# Altium footprint library SWITCH.PCBLIB: 95 footprints (part 3 of 6)
Each footprint in its own frame and in the unit in brackets; x right, y up, seen from the top. Pads: shape width x height; smd on the part's side, far side on the other; paste and mask are expansions set on the pad; w line width, h text height; cw(c..) or ccw(c..) is an arc to the next point about the centre after c.
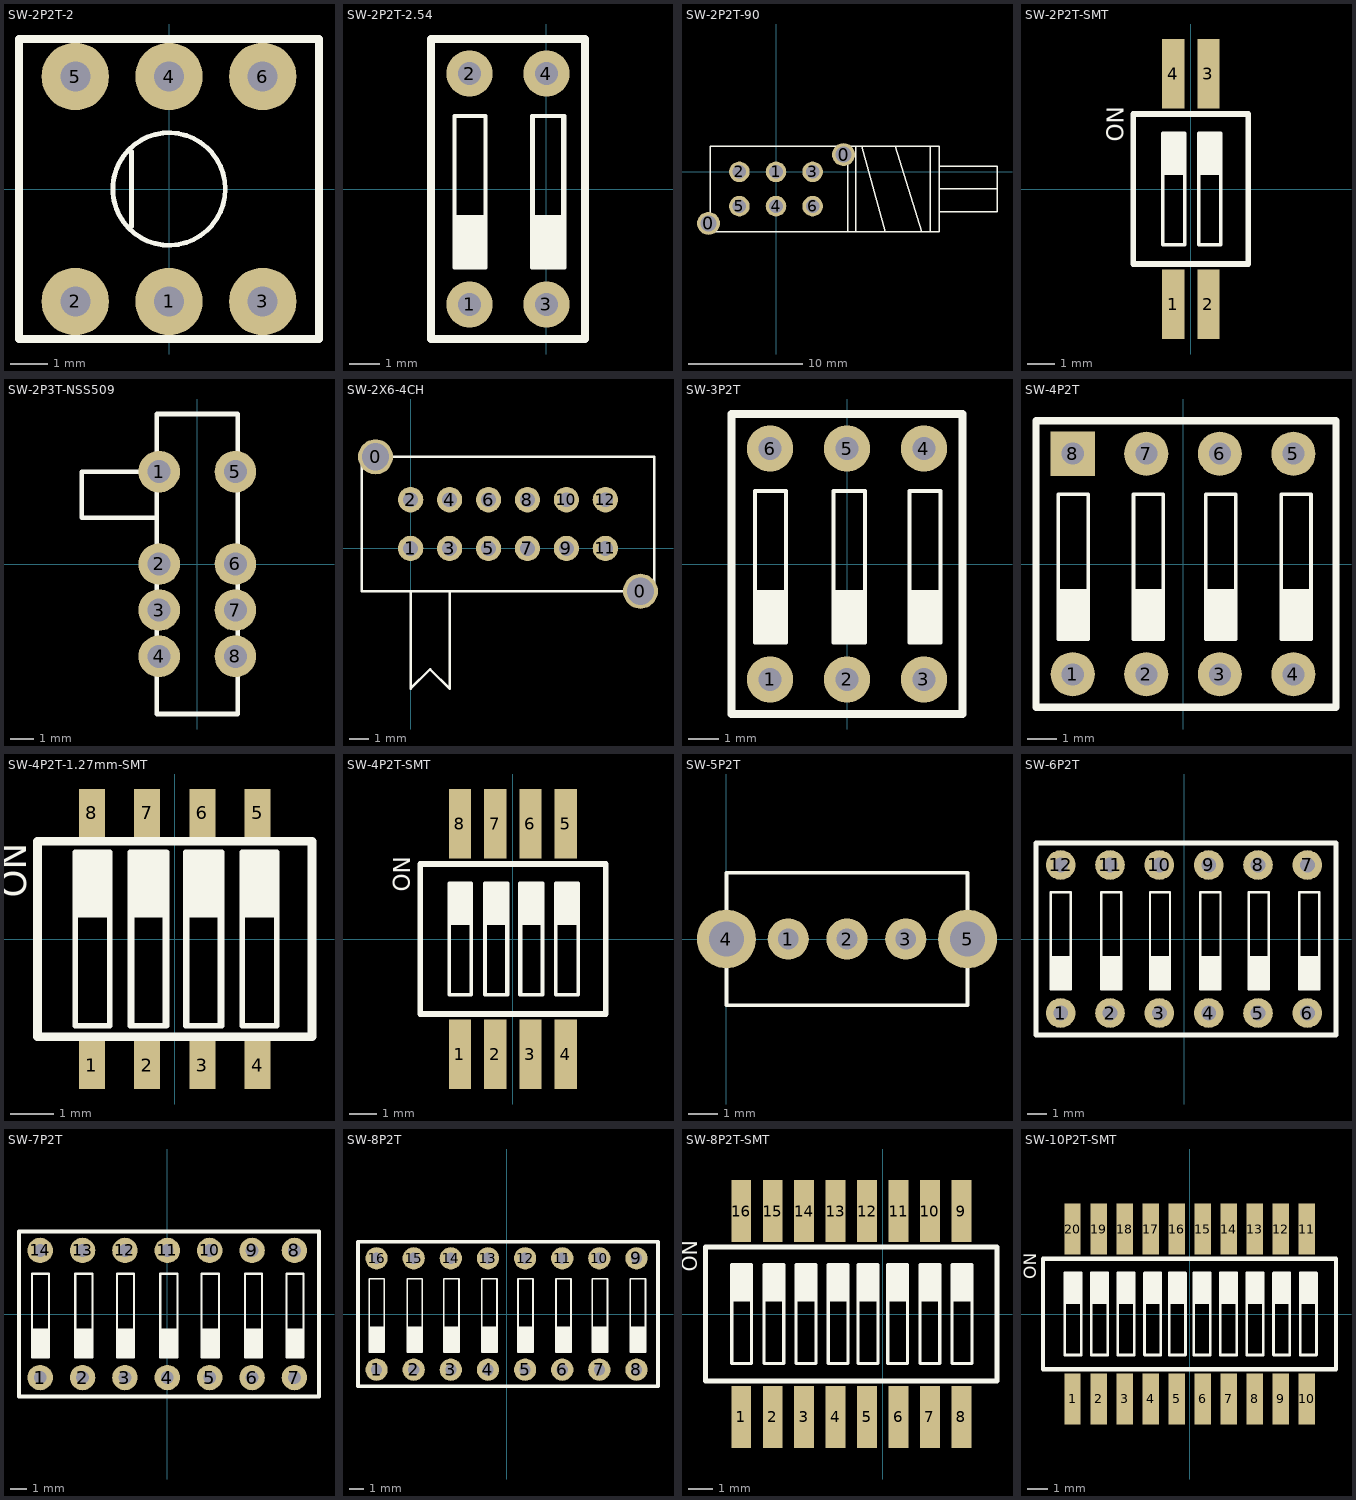
[diagram p2: the footprints below, top view; thin cyan lines are the x and y axes]

## SW-2P2T-2 [mm]
pads (6):
  round 1.8 hole 0.8: 1(0,-3) 2(-2.5,-3) 3(2.5,-3) 4(0,3) 5(-2.5,3) 6(2.5,3)
TopOverlay:
  circle w0.127: c0,0 r1.5
  lines w0.127: -1,-1 -1,1
  lines w0.203: -4,-4 -4,4 4,4 4,-4 0,-4 -4,-4

## SW-2P2T-2.54 [mil] "SW-2P2T-2.54"
pads (4):
  round 60 hole 30: 1(-100,-150) 2(-100,150) 3(0,-150) 4(0,150)
TopOverlay:
  rectangle: -119.69,-101.97 -79.13,-33.98
  rectangle: -17.36,-101.97 23.2,-33.98
  rectangle: -18.97,-101.97 21.58,-33.98
  lines w5: -119.69,-101.97 -119.69,94.88 -79.13,94.88 -79.13,-101.97 -119.69,-101.97 ; -18.97,-101.97 -18.97,94.88 21.58,94.88 21.58,-101.97 -18.97,-101.97 ; -17.36,-101.97 -17.36,94.88 23.2,94.88 23.2,-101.97 -17.36,-101.97
  lines w10: -150,-194.88 -150,194.88 50,194.88 50,-194.88 -150,-194.88

## SW-2P2T-90 [mm]
pads (8):
  round 2 hole 1.4: 0(-5.9,-4.5) 0(5.9,1.5)
  round 1.8 hole 1.2: 1(0,0) 2(-3.2,0) 3(3.2,0) 4(0,-3) 5(-3.2,-3) 6(3.2,-3)
TopOverlay:
  lines w0.127: 6.26,-5.25 6.26,2.25 ; 6.946,-5.25 6.946,2.25 ; 7.471,2.25 9.52,-5.25 ; 10.395,2.25 12.719,-5.25 ; 13.468,-5.2 13.468,2.25 ; 14.26,-3.499 19.3,-3.499 ; 14.26,-1.5 19.3,-1.5 ; 14.3,0.5 19.3,0.5 19.3,-3.5 ; -5.74,-5.25 -5.74,2.25 14.26,2.25 14.26,-5.25 -5.74,-5.25

## SW-2P2T-SMT [mm] "SW-2P2T-SMT"
pads (4):
  rect 0.8x2.5 smd: 1(-0.635,-4.15) 2(0.635,-4.15) 3(0.635,4.15) 4(-0.635,4.15)
TopOverlay:
  rectangle: -1.02,0.5 -0.22,2
  rectangle: 0.28,0.5 1.08,2
  lines w0.127: -1.02,-2 -1.02,2 -0.22,2 -0.22,-2 -1.02,-2 ; 0.28,-2 0.28,2 1.08,2 1.08,-2 0.28,-2
  lines w0.2: -2.07,-2.7 -2.07,2.7 2.07,2.7 2.07,-2.7 -2.07,-2.7
  text "ON" at -2.42,1.7 h0.6

## SW-2P3T-NSS509 [mm]
pads (8):
  round 1.8 hole 1: 1(-1.65,4) 2(-1.65,0) 3(-1.65,-2) 4(-1.65,-4) 5(1.65,4) 6(1.65,0) 7(1.65,-2) 8(1.65,-4)
TopOverlay:
  lines w0.2: -1.75,2 -5,2 -5,4 -1.65,4 ; -1.75,-6.5 1.75,-6.5 1.75,6.5 -1.75,6.5 -1.75,-6.5

## SW-2X6-4CH [mm]
pads (14):
  round 1.8 hole 1.4: 0(-1.8,4.7) 0(11.8,-2.2)
  round 1.3 hole 0.762: 1(0,0) 2(0,2.5) 3(2,0) 4(2,2.5) 5(4,0) 6(4,2.5) 7(6,0) 8(6,2.5) 9(8,0) 10(8,2.5) 11(10,0) 12(10,2.5)
TopOverlay:
  lines w0.127: 0,-2.2 0,-7.2 0.999,-6.201 ; 1.001,-6.201 2,-7.2 2,-2.2 ; -2.5,-2.2 12.5,-2.2 12.5,4.7 -2.5,4.7 -2.5,-2.2

## SW-3P2T [mil]
pads (6):
  round 60 hole 30: 1(-100,-150) 2(0,-150) 3(100,-150) 4(100,150) 5(0,150) 6(-100,150)
TopOverlay:
  rectangle: -119.69,-101.97 -79.13,-33.98
  rectangle: -17.36,-101.97 23.2,-33.98
  rectangle: 81.03,-101.97 121.58,-33.98
  lines w5: -119.69,-101.97 -119.69,94.88 -79.13,94.88 -79.13,-101.97 -119.69,-101.97 ; -17.36,-101.97 -17.36,94.88 23.2,94.88 23.2,-101.97 -17.36,-101.97 ; 81.03,-101.97 81.03,94.88 121.58,94.88 121.58,-101.97 81.03,-101.97
  lines w10: -150,-194.88 -150,194.88 150,194.88 150,-194.88 -150,-194.88

## SW-4P2T [mil]
pads (8):
  round 60 hole 30: 1(-150,-150) 2(-50,-150) 3(50,-150) 4(150,-150) 5(150,150) 6(50,150) 7(-50,150)
  rect 60x60 hole 30: 8(-150,150)
TopOverlay:
  rectangle: -169.68,-101.97 -129.13,-33.98
  rectangle: -67.36,-101.97 -26.8,-33.98
  rectangle: 31.03,-101.97 71.58,-33.98
  rectangle: 133.35,-101.97 173.9,-33.98
  lines w5: -169.69,-101.97 -169.69,94.88 -129.13,94.88 -129.13,-101.97 -169.69,-101.97 ; -67.36,-101.97 -67.36,94.88 -26.8,94.88 -26.8,-101.97 -67.36,-101.97 ; 31.03,-101.97 31.03,94.88 71.58,94.88 71.58,-101.97 31.03,-101.97 ; 133.35,-101.97 133.35,94.88 173.9,94.88 173.9,-101.97 133.35,-101.97
  lines w10: -200,-194.88 -200,194.88 208,194.88 208,-194.88 -200,-194.88

## SW-4P2T-1.27mm-SMT [mm] "SW-4P2T-1.27mm-SMT"
pads (8):
  rect 0.6x1.1 smd: 1(-1.905,-2.9) 2(-0.635,-2.9) 3(0.635,-2.9) 4(1.905,-2.9) 5(1.905,2.9) 6(0.635,2.9) 7(-0.635,2.9) 8(-1.905,2.9)
TopOverlay:
  rectangle: 1.55,0.5 2.35,2
  rectangle: 0.25,0.5 1.05,2
  rectangle: -1.02,0.5 -0.22,2
  rectangle: 0.28,0.5 1.08,2
  rectangle: -0.99,0.5 -0.19,2
  rectangle: -2.29,0.5 -1.49,2
  lines w0.127: -2.29,-2 -1.49,-2 -1.49,2 -2.29,2 -2.29,-2 ; -1.02,-2 -1.02,2 -0.22,2 -0.22,-2 -1.02,-2 ; -0.99,-2 -0.19,-2 -0.19,2 -0.99,2 -0.99,-2 ; 0.25,-2 1.05,-2 1.05,2 0.25,2 0.25,-2 ; 0.28,-2 0.28,2 1.08,2 1.08,-2 0.28,-2 ; 1.55,-2 2.35,-2 2.35,2 1.55,2 1.55,-2
  lines w0.2: -3.155,-2.25 -3.155,2.25 3.155,2.25 3.155,-2.25 -3.155,-2.25
  text "ON" at -3.42,0.95 h0.6

## SW-4P2T-SMT [mm] "SW-4P2T-SMT"
pads (8):
  rect 0.8x2.5 smd: 1(-1.905,-4.15) 2(-0.635,-4.15) 3(0.635,-4.15) 4(1.905,-4.15) 5(1.905,4.15) 6(0.635,4.15) 7(-0.635,4.15) 8(-1.905,4.15)
TopOverlay:
  rectangle: -2.29,0.5 -1.49,2
  rectangle: -0.99,0.5 -0.19,2
  rectangle: 0.28,0.5 1.08,2
  rectangle: -1.02,0.5 -0.22,2
  rectangle: 0.25,0.5 1.05,2
  rectangle: 1.55,0.5 2.35,2
  lines w0.127: -2.29,-2 -2.29,2 -1.49,2 -1.49,-2 -2.29,-2 ; -1.02,-2 -0.22,-2 -0.22,2 -1.02,2 -1.02,-2 ; -0.99,-2 -0.99,2 -0.19,2 -0.19,-2 -0.99,-2 ; 0.25,-2 0.25,2 1.05,2 1.05,-2 0.25,-2 ; 0.28,-2 1.08,-2 1.08,2 0.28,2 0.28,-2 ; 1.55,-2 1.55,2 2.35,2 2.35,-2 1.55,-2
  lines w0.2: -3.34,-2.7 -3.34,2.7 3.34,2.7 3.34,-2.7 -3.34,-2.7
  text "ON" at -3.69,1.7 h0.6

## SW-5P2T [mm] "SW-5P2T"
pads (5):
  round 1.4 hole 0.7: 1(2.1,0) 2(4.1,0) 3(6.1,0)
  round 2 hole 1.2: 4(0,0) 5(8.2,0)
TopOverlay:
  lines w0.127: 0,-2.25 0,2.25 8.2,2.25 8.2,-2.25 0,-2.25

## SW-6P2T [mil]
pads (12):
  round 60 hole 30: 1(-250,-150) 2(-150,-150) 3(-50,-150) 4(50,-150) 5(150,-150) 6(250,-150) 7(250,150) 8(150,150) 9(50,150) 10(-50,150) 11(-150,150) 12(-250,150)
TopOverlay:
  rectangle: 233.35,-101.97 273.9,-33.98
  rectangle: 131.03,-101.97 171.58,-33.98
  rectangle: 33.35,-101.97 73.9,-33.98
  rectangle: -68.97,-101.97 -28.42,-33.98
  rectangle: -167.36,-101.97 -126.8,-33.98
  rectangle: -269.68,-101.97 -229.13,-33.98
  lines w5: -269.69,-101.97 -229.13,-101.97 -229.13,94.88 -269.69,94.88 -269.69,-101.97 ; -167.36,-101.97 -126.8,-101.97 -126.8,94.88 -167.36,94.88 -167.36,-101.97 ; -68.97,-101.97 -28.42,-101.97 -28.42,94.88 -68.97,94.88 -68.97,-101.97 ; 33.35,-101.97 73.9,-101.97 73.9,94.88 33.35,94.88 33.35,-101.97 ; 131.03,-101.97 171.58,-101.97 171.58,94.88 131.03,94.88 131.03,-101.97 ; 233.35,-101.97 273.9,-101.97 273.9,94.88 233.35,94.88 233.35,-101.97
  lines w10: -300,-194.88 308,-194.88 308,194.88 -300,194.88 -300,-194.88

## SW-7P2T [mil]
pads (14):
  round 60 hole 30: 1(-300,-150) 2(-200,-150) 3(-100,-150) 4(0,-150) 5(100,-150) 6(200,-150) 7(300,-150) 8(300,150) 9(200,150) 10(100,150) 11(0,150) 12(-100,150) 13(-200,150) 14(-300,150)
TopOverlay:
  rectangle: 281.03,-101.97 321.58,-33.98
  rectangle: 183.35,-101.97 223.9,-33.98
  rectangle: 81.03,-101.97 121.58,-33.98
  rectangle: -16.65,-101.97 23.9,-33.98
  rectangle: -118.97,-101.97 -78.42,-33.98
  rectangle: -217.36,-101.97 -176.8,-33.98
  rectangle: -319.68,-101.97 -279.13,-33.98
  lines w5: -319.69,-101.97 -279.13,-101.97 -279.13,94.88 -319.69,94.88 -319.69,-101.97 ; -217.36,-101.97 -176.8,-101.97 -176.8,94.88 -217.36,94.88 -217.36,-101.97 ; -118.97,-101.97 -78.42,-101.97 -78.42,94.88 -118.97,94.88 -118.97,-101.97 ; -16.65,-101.97 23.9,-101.97 23.9,94.88 -16.65,94.88 -16.65,-101.97 ; 81.03,-101.97 121.58,-101.97 121.58,94.88 81.03,94.88 81.03,-101.97 ; 183.35,-101.97 223.9,-101.97 223.9,94.88 183.35,94.88 183.35,-101.97 ; 281.03,-101.97 321.58,-101.97 321.58,94.88 281.03,94.88 281.03,-101.97
  lines w10: -350,-194.88 358,-194.88 358,194.88 -350,194.88 -350,-194.88

## SW-8P2T [mil]
pads (16):
  round 60 hole 30: 1(-350,-150) 2(-250,-150) 3(-150,-150) 4(-50,-150) 5(50,-150) 6(150,-150) 7(250,-150) 8(350,-150) 9(350,150) 10(250,150) 11(150,150) 12(50,150) 13(-50,150) 14(-150,150) 15(-250,150) 16(-350,150)
TopOverlay:
  rectangle: 333.35,-101.97 373.9,-33.98
  rectangle: 231.03,-101.97 271.58,-33.98
  rectangle: 133.35,-101.97 173.9,-33.98
  rectangle: 31.03,-101.97 71.58,-33.98
  rectangle: -66.65,-101.97 -26.1,-33.98
  rectangle: -168.97,-101.97 -128.42,-33.98
  rectangle: -267.36,-101.97 -226.8,-33.98
  rectangle: -369.68,-101.97 -329.13,-33.98
  lines w5: -369.69,-101.97 -329.13,-101.97 -329.13,94.88 -369.69,94.88 -369.69,-101.97 ; -267.36,-101.97 -226.8,-101.97 -226.8,94.88 -267.36,94.88 -267.36,-101.97 ; -168.97,-101.97 -128.42,-101.97 -128.42,94.88 -168.97,94.88 -168.97,-101.97 ; -66.65,-101.97 -26.1,-101.97 -26.1,94.88 -66.65,94.88 -66.65,-101.97 ; 31.03,-101.97 71.58,-101.97 71.58,94.88 31.03,94.88 31.03,-101.97 ; 133.35,-101.97 173.9,-101.97 173.9,94.88 133.35,94.88 133.35,-101.97 ; 231.03,-101.97 271.58,-101.97 271.58,94.88 231.03,94.88 231.03,-101.97 ; 333.35,-101.97 373.9,-101.97 373.9,94.88 333.35,94.88 333.35,-101.97
  lines w10: -400,-194.88 408,-194.88 408,194.88 -400,194.88 -400,-194.88

## SW-8P2T-SMT [mm]
pads (16):
  rect 0.8x2.5 smd: 1(-5.715,-4.15) 2(-4.445,-4.15) 3(-3.175,-4.15) 4(-1.905,-4.15) 5(-0.635,-4.15) 6(0.635,-4.15) 7(1.905,-4.15) 8(3.175,-4.15) 9(3.175,4.15) 10(1.905,4.15) 11(0.635,4.15) 12(-0.635,4.15) 13(-1.905,4.15) 14(-3.175,4.15) 15(-4.445,4.15) 16(-5.715,4.15)
TopOverlay:
  rectangle: 2.8,0.5 3.6,2
  rectangle: 1.5,0.5 2.3,2
  rectangle: 0.2,0.5 1,2
  rectangle: -1,0.5 -0.2,2
  rectangle: -2.2,0.5 -1.4,2
  rectangle: -3.5,0.5 -2.7,2
  rectangle: -4.8,0.5 -4,2
  rectangle: -6.1,0.5 -5.3,2
  lines w0.127: -6.1,-2 -5.3,-2 -5.3,2 -6.1,2 -6.1,-2 ; -4.8,-2 -4,-2 -4,2 -4.8,2 -4.8,-2 ; -3.5,-2 -2.7,-2 -2.7,2 -3.5,2 -3.5,-2 ; -2.2,-2 -1.4,-2 -1.4,2 -2.2,2 -2.2,-2 ; -1,-2 -0.2,-2 -0.2,2 -1,2 -1,-2 ; 0.2,-2 1,-2 1,2 0.2,2 0.2,-2 ; 1.5,-2 2.3,-2 2.3,2 1.5,2 1.5,-2 ; 2.8,-2 3.6,-2 3.6,2 2.8,2 2.8,-2
  lines w0.2: -7.15,-2.7 4.61,-2.7 4.61,2.7 -7.15,2.7 -7.15,-2.7
  text "ON" at -7.5,1.7 h0.6

## SW-10P2T-SMT [mm]
pads (20):
  rect 0.8x2.5 smd: 1(-5.715,-4.15) 2(-4.445,-4.15) 3(-3.175,-4.15) 4(-1.905,-4.15) 5(-0.635,-4.15) 6(0.635,-4.15) 7(1.905,-4.15) 8(3.175,-4.15) 9(4.445,-4.15) 10(5.715,-4.15) 11(5.715,4.15) 12(4.445,4.15) 13(3.175,4.15) 14(1.905,4.15) 15(0.635,4.15) 16(-0.635,4.15) 17(-1.905,4.15) 18(-3.175,4.15) 19(-4.445,4.15) 20(-5.715,4.15)
TopOverlay:
  rectangle: -6.1,0.5 -5.3,2
  rectangle: -4.8,0.5 -4,2
  rectangle: -3.5,0.5 -2.7,2
  rectangle: -2.2,0.5 -1.4,2
  rectangle: -1,0.5 -0.2,2
  rectangle: 0.2,0.5 1,2
  rectangle: 1.5,0.5 2.3,2
  rectangle: 2.8,0.5 3.6,2
  rectangle: 4.1,0.5 4.9,2
  rectangle: 5.4,0.5 6.2,2
  lines w0.127: -6.1,-2 -6.1,2 -5.3,2 -5.3,-2 -6.1,-2 ; -4.8,-2 -4.8,2 -4,2 -4,-2 -4.8,-2 ; -3.5,-2 -3.5,2 -2.7,2 -2.7,-2 -3.5,-2 ; -2.2,-2 -2.2,2 -1.4,2 -1.4,-2 -2.2,-2 ; -1,-2 -1,2 -0.2,2 -0.2,-2 -1,-2 ; 0.2,-2 0.2,2 1,2 1,-2 0.2,-2 ; 1.5,-2 1.5,2 2.3,2 2.3,-2 1.5,-2 ; 2.8,-2 2.8,2 3.6,2 3.6,-2 2.8,-2 ; 4.1,-2 4.1,2 4.9,2 4.9,-2 4.1,-2 ; 5.4,-2 5.4,2 6.2,2 6.2,-2 5.4,-2
  lines w0.2: -7.15,-2.7 -7.15,2.7 7.15,2.7 7.15,-2.7 -7.15,-2.7
  text "ON" at -7.5,1.7 h0.6